# Altium footprint library YNPcbLib.PcbLib: 18 footprints (part 1 of 2)
Each footprint in its own frame and in the unit in brackets; x right, y up, seen from the top. Pads: shape width x height; smd on the part's side, far side on the other; paste and mask are expansions set on the pad; w line width, h text height; cw(c..) or ccw(c..) is an arc to the next point about the centre after c.
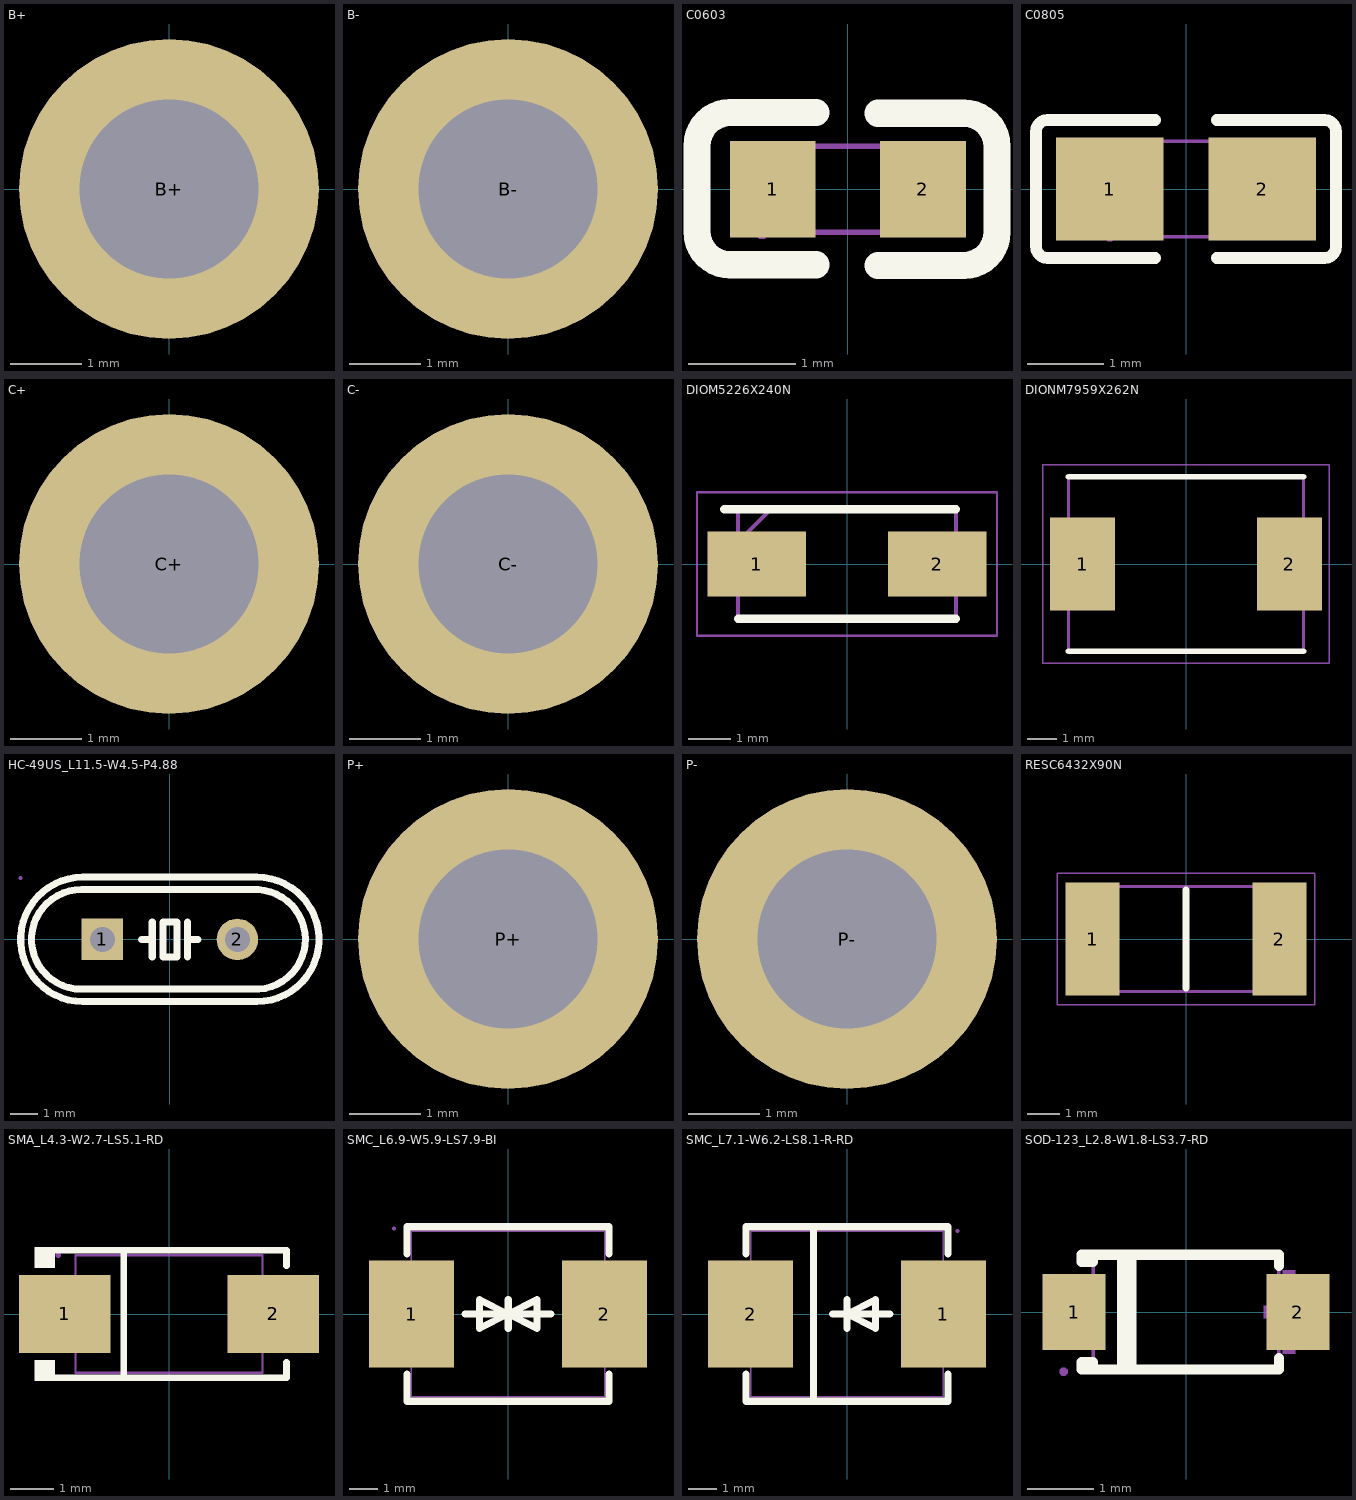
[diagram p0: the footprints below, top view; thin cyan lines are the x and y axes]

## B+ [mm]
pads (1):
  round 4.2 hole 2.5: B+(0,0)

## B- [mm]
pads (1):
  round 4.2 hole 2.5: B-(0,0)

## C0603 [mm]
pads (2):
  rect 0.8x0.9 smd paste+0 mask+0.051: 1(-0.7,0) 2(0.7,0)
Top Overlay:
  lines w0.254: -0.296,-0.704 -1.096,-0.704 cw(c-1.096,-0.394) -1.406,-0.394 -1.405,0.406 cw(c-1.096,0.406) -1.096,0.715 -0.296,0.715 ; 0.28,-0.71 1.08,-0.71 ccw(c1.08,-0.4) 1.39,-0.4 1.39,0.4 ccw(c1.08,0.4) 1.08,0.71 0.28,0.71
Mechanical 15:
  region: 0.8,-0.4 0.8,0.4 0.5,0.4 0.5,-0.4
  region: -0.8,-0.4 -0.8,0.4 -0.5,0.4 -0.5,-0.4
  region: -0.74,-0.4 -0.74,-0.375 -0.775,-0.34 -0.825,-0.34 -0.86,-0.375 -0.86,-0.4 -0.86,-0.425 -0.825,-0.46 -0.775,-0.46 -0.74,-0.425 -0.74,-0.4
  lines w0.051: -0.8,-0.4 0.8,-0.4 0.8,0.4 -0.8,0.4 -0.8,-0.4
3D body "VJ0603Y223KXXAP.stp": height 0.97, standoff 0, extent -0.8,-0.4 0.8,0.4

## C0805 [mm]
pads (2):
  rect 1.41x1.35 smd paste-100 mask+0.051: 1(-1,0) 2(1,0)
Top Overlay:
  lines w0.152: -0.401,-0.904 -1.811,-0.904 cw(c-1.811,-0.751) -1.964,-0.751 -1.964,0.751 cw(c-1.811,0.751) -1.811,0.904 -0.401,0.904 ; 0.401,-0.904 1.811,-0.904 ccw(c1.811,-0.751) 1.964,-0.751 1.964,0.751 ccw(c1.811,0.751) 1.811,0.904 0.401,0.904
Top Paste:
  region: 0.475,-0.62 0.475,-0.2 0.92,-0.2 0.92,0.25 0.48,0.25 0.475,0.66 0.525,0.71 1.675,0.71 1.725,0.66 1.725,-0.62 1.675,-0.67 0.525,-0.67
  region: -1.675,-0.62 -1.675,0.66 -1.625,0.71 -0.475,0.71 -0.425,0.66 -0.42,0.25 -0.87,0.25 -0.87,-0.2 -0.43,-0.2 -0.425,-0.62 -0.475,-0.67 -1.625,-0.67
Mechanical 15:
  region: 1,0.625 1,-0.625 0.5,-0.625 0.5,0.625
  region: -1,-0.625 -1,0.625 -0.5,0.625 -0.5,-0.625
  region: -0.94,-0.625 -0.94,-0.6 -0.975,-0.565 -1.025,-0.565 -1.06,-0.6 -1.06,-0.625 -1.06,-0.65 -1.025,-0.685 -0.975,-0.685 -0.94,-0.65 -0.94,-0.625
  lines w0.051: -1,-0.625 1,-0.625 1,0.625 -1,0.625 -1,-0.625

## C+ [mm]
pads (1):
  round 4.2 hole 2.5: C+(0,0)

## C- [mm]
pads (1):
  round 4.2 hole 2.5: C-(0,0)

## DIOM5226X240N [mm]
pads (2):
  rect 2.35x1.55 smd: 1(-2.15,0) 2(2.15,0)
Top Overlay:
  lines w0.2: -2.925,1.302 2.598,1.302 ; -2.598,-1.302 2.598,-1.302
Mechanical 13:
  lines w0.1: -2.598,0.528 -1.822,1.302 ; -2.598,-1.302 -2.598,1.302 2.598,1.302 2.598,-1.302 -2.598,-1.302
Mechanical 15:
  lines w0.05: -3.575,-1.71 -3.575,1.71 3.575,1.71 3.575,-1.71 -3.575,-1.71
3D body "UF2G-13-F.stp": height 2.4, standoff 0, extent -2.598,-1.302 2.598,1.302

## DIONM7959X262N [mm]
pads (2):
  rect 2.2x3.15 smd: 1(-3.5,0) 2(3.5,0)
Top Overlay:
  lines w0.2: -3.97,-2.952 3.97,-2.952 ; -3.97,2.952 3.97,2.952
Mechanical 13:
  lines w0.1: -3.97,-2.952 3.97,-2.952 3.97,2.952 -3.97,2.952 -3.97,-2.952
Mechanical 15:
  lines w0.05: -4.85,-3.36 4.85,-3.36 4.85,3.36 -4.85,3.36 -4.85,-3.36
3D body "SMCJ36CA.stp": height 2.62, standoff 0, extent -3.97,-2.953 3.97,2.953

## HC-49US_L11.5-W4.5-P4.88 [mm]
pads (2):
  rect 1.5x1.5 hole 0.9: 1(-2.44,0)
  round 1.5 hole 0.9: 2(2.44,0)
Top Overlay:
  lines w0.254: -3.2,1.8 3.2,1.8 cw(c3.093,0) 3,-1.801 ; -3.2,1.801 ccw(c-3.2,0) -3.2,-1.8 3,-1.8 ; -1.016,0 -0.635,0 ; -0.635,-0.635 -0.635,0 ; -0.635,0.635 -0.635,0 ; 0.635,-0.635 0.635,0 ; 0.635,0.635 0.635,0 ; 1.016,0 0.635,0 ; -3.15,-2.25 cw(c-3.142,0) -3.15,2.25 3.15,2.25 cw(c3.142,0) 3.15,-2.25 -3.15,-2.25 ; -0.254,-0.635 0.254,-0.635 0.254,0.635 -0.254,0.635 -0.254,-0.635
Mechanical 15:
  region: -5.332,2.22 -5.332,2.245 -5.368,2.28 -5.417,2.28 -5.452,2.245 -5.452,2.22 -5.452,2.195 -5.417,2.16 -5.368,2.16 -5.332,2.195 -5.332,2.22
  region: 2.655,0 2.655,0.043 2.622,0.122 2.562,0.182 2.483,0.215 2.397,0.215 2.318,0.182 2.258,0.122 2.225,0.043 2.225,0 2.225,-0.043 2.258,-0.122 2.318,-0.182 2.397,-0.215 2.483,-0.215 2.562,-0.182 2.622,-0.122 2.655,-0.043 2.655,0
  region: -2.225,0 -2.225,0.043 -2.258,0.122 -2.318,0.182 -2.397,0.215 -2.483,0.215 -2.562,0.182 -2.622,0.122 -2.655,0.043 -2.655,0 -2.655,-0.043 -2.622,-0.122 -2.562,-0.182 -2.483,-0.215 -2.397,-0.215 -2.318,-0.182 -2.258,-0.122 -2.225,-0.043 -2.225,0
  lines w0.051: -5.392,0 ccw(c-3.142,0) -3.15,-2.25 3.142,-2.25 ccw(c3.142,0) 5.392,0 ccw(c3.142,0) 3.142,2.25 -3.15,2.25 ccw(c-3.142,0) -5.392,0

## P+ [mm]
pads (1):
  round 4.2 hole 2.5: P+(0,0)

## P- [mm]
pads (1):
  round 4.2 hole 2.5: P-(0,0)

## RESC6432X90N [mm]
pads (2):
  rect 1.65x3.45 smd: 1(-2.85,0) 2(2.85,0)
Top Overlay:
  lines w0.2: 0,-1.5 0,1.5
Mechanical 13:
  lines w0.1: -3.2,-1.6 3.2,-1.6 3.2,1.6 -3.2,1.6 -3.2,-1.6
Mechanical 15:
  lines w0.05: -3.925,-2 3.925,-2 3.925,2 -3.925,2 -3.925,-2
3D body "MCLRP12FTWSR050.stp": height 0.9, standoff 0, extent -3.2,-1.6 3.2,1.6

## SMA_L4.3-W2.7-LS5.1-RD [mm]
pads (2):
  rect 2.1x1.8 smd paste+0 mask+0.051: 1(-2.4,0) 2(2.4,0)
Top Overlay:
  region: -2.625,1.54 -2.625,1.062 -3.082,1.062 -3.082,1.54
  region: -2.625,-1.54 -2.625,-1.062 -3.082,-1.062 -3.082,-1.54
  lines w0.152: -2.701,-1.464 2.701,-1.464 2.701,-1.113 ; -2.701,1.464 2.701,1.464 2.701,1.113 ; -1.039,-1.364 -1.039,1.364
Mechanical 6:
  region: -2.432,-0.097 -2.432,0.097 -1.659,0.097 -1.659,-0.097
  region: 2.432,-0.097 2.432,0.097 1.659,0.097 1.659,-0.097
  region: 2.142,-0.644 2.142,0.644 1.949,0.644 1.949,-0.644
Mechanical 15:
  region: -2.49,1.35 -2.49,1.375 -2.525,1.41 -2.575,1.41 -2.61,1.375 -2.61,1.35 -2.61,1.325 -2.575,1.29 -2.525,1.29 -2.49,1.325 -2.49,1.35
  region: 1.41,-0.7 1.41,0.7 2.55,0.7 2.55,-0.7
  region: -1.41,0.7 -1.41,-0.7 -2.55,-0.7 -2.55,0.7
  lines w0.051: -2.15,-1.35 -2.15,1.35 2.15,1.35 2.15,-1.35 -2.15,-1.35

## SMC_L6.9-W5.9-LS7.9-BI [mm]
pads (2):
  rect 3.03x3.82 smd paste+0 mask+0.051: 1(-3.435,0) 2(3.435,0)
Top Overlay:
  lines w0.254: -3.6,-2.141 -3.6,-3.11 3.6,-3.11 3.6,-2.141 ; -3.6,2.141 -3.6,3.11 3.6,3.11 3.6,2.141 ; -1.524,0 0.508,0 ; -0.496,0 1.536,0 ; 0,-0.508 0,0.508 0,0 ; 0.012,0.508 0.012,-0.508 0.012,0 ; 0,0 -1.016,0.508 -1.016,-0.508 0,0 ; 0.012,0 1.028,0.508 1.028,-0.508 0.012,0
Mechanical 15:
  region: 2.812,1.525 3.952,1.525 3.952,-1.525 2.812,-1.525
  region: -3.949,1.525 -2.809,1.525 -2.809,-1.525 -3.949,-1.525
  region: -4.004,3.048 -4.004,3.073 -4.039,3.108 -4.089,3.108 -4.124,3.073 -4.124,3.048 -4.124,3.023 -4.089,2.988 -4.039,2.988 -4.004,3.023 -4.004,3.048
  lines w0.051: -3.45,-2.95 -3.45,2.95 3.45,2.95 3.45,-2.95 -3.45,-2.95

## SMC_L7.1-W6.2-LS8.1-R-RD [mm]
pads (2):
  rect 3.03x3.82 smd paste+0 mask+0.051: 1(3.435,0) 2(-3.435,0)
Top Overlay:
  lines w0.254: -3.6,-2.141 -3.6,-3.11 3.6,-3.11 3.6,-2.141 ; -3.6,2.141 -3.6,3.11 3.6,3.11 3.6,2.141 ; -1.192,-3.11 -1.192,3.11 ; -0.508,0 1.524,0 ; 0,0.508 0,-0.508 0,0 ; 0,0 1.016,0.508 1.016,-0.508 0,0
Mechanical 6:
  region: -4.33,0.254 -2.552,0.254 -2.552,-0.254 -4.33,-0.254
  region: 3.181,-0.895 3.181,0.883 3.689,0.883 3.689,-0.895
  region: 2.54,0.254 4.318,0.254 4.318,-0.254 2.54,-0.254
Mechanical 15:
  region: 2.928,1.475 3.943,1.475 3.943,-1.475 2.928,-1.475
  region: -2.928,-1.475 -3.943,-1.475 -3.943,1.475 -2.928,1.475
  region: 4.003,2.952 4.003,2.977 3.968,3.012 3.918,3.012 3.883,2.977 3.883,2.952 3.883,2.927 3.918,2.892 3.968,2.892 4.003,2.927 4.003,2.952
  lines w0.051: -3.428,-2.952 -3.428,2.952 3.428,2.952 3.428,-2.952 -3.428,-2.952

## SOD-123_L2.8-W1.8-LS3.7-RD [mm]
pads (2):
  rect 0.95x1.15 smd paste+0 mask+0.051: 1(-1.692,0) 2(1.692,0)
Top Overlay:
  lines w0.152: -0.97,-0.866 -0.97,0.866 ; -0.827,-0.866 -0.827,0.866 ; 1.406,-0.698 1.406,-0.866 -1.406,-0.866 ; 1.406,0.698 1.406,0.866 -1.406,0.866 ; -1.406,-0.866 -1.58,-0.866 -1.58,-0.755 -1.406,-0.755 -1.406,-0.866 ; -1.406,0.866 -1.58,0.866 -1.58,0.755 -1.406,0.755 -1.406,0.866
Mechanical 6:
  region: -2.03,0.095 -2.03,-0.095 -1.272,-0.095 -1.272,0.095
  region: 1.935,0.098 1.935,-0.092 1.177,-0.092 1.177,0.098
  region: 1.651,0.635 1.651,-0.629 1.461,-0.629 1.461,0.635
Mechanical 15:
  region: -1.79,-0.9 -1.79,-0.875 -1.826,-0.84 -1.875,-0.84 -1.91,-0.875 -1.91,-0.9 -1.91,-0.925 -1.875,-0.96 -1.826,-0.96 -1.79,-0.925 -1.79,-0.9
  region: -1.851,-0.465 -1.851,0.465 -1.301,0.465 -1.301,-0.465
  region: 1.851,-0.465 1.851,0.465 1.301,0.465 1.301,-0.465
  lines w0.051: -1.4,-0.9 -1.4,0.9 1.4,0.9 1.4,-0.9 -1.4,-0.9